# Altium schematic symbol library Analog_Switch.SchLib: 165 symbols (part 2 of 2)
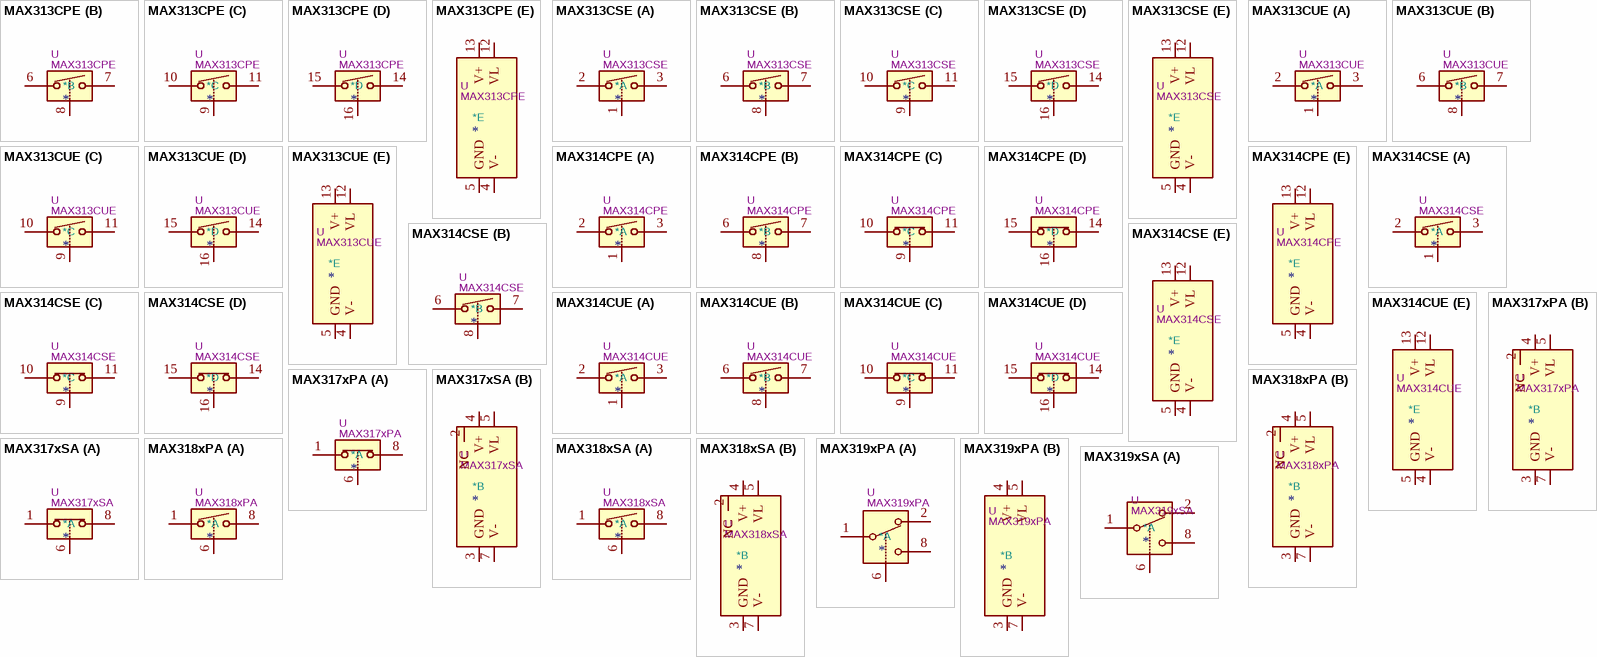
[diagram p11: symbols MAX313CPE to MAX319xSA]

## MAX313CSE
designator *  value MAX313CSE  Reference: U
Quad SPST CMOS Analog Switches, normally OFF, 6.5Ohm Ron, SOIC-16; ki_fp_filters: SOIC*3.9x9.9mm*P1.27mm*; Footprint: Package_SO:SOIC-16_3.9x9.9mm_P1.27mm; Datasheet: https://datasheets.maximintegrated.com/en/ds/MAX312-MAX314.pdf; Description_: Quad SPST CMOS Analog Switches, normally OFF, 6.5Ohm Ron, SOIC-16; ki_keywords: CMOS Analog Switch
part A pins: 1, 2, 3
part B pins: 6, 7, 8
part C pins: 9, 10, 11
part D pins: 14, 15, 16
part E pins: 4 V-, 5 GND, 12 VL, 13 V+

## MAX313CUE
designator *  value MAX313CUE  Reference: U
Quad SPST CMOS Analog Switches, normally OFF, 6.5Ohm Ron, TSSOP-16; ki_fp_filters: TSSOP*4.4x5mm*P0.65mm*; Footprint: Package_SO:TSSOP-16_4.4x5mm_P0.65mm; Datasheet: https://datasheets.maximintegrated.com/en/ds/MAX312-MAX314.pdf; Description_: Quad SPST CMOS Analog Switches, normally OFF, 6.5Ohm Ron, TSSOP-16; ki_keywords: CMOS Analog Switch
part A pins: 1, 2, 3
part B pins: 6, 7, 8
part C pins: 9, 10, 11
part D pins: 14, 15, 16
part E pins: 4 V-, 5 GND, 12 VL, 13 V+

## MAX314CPE
designator *  value MAX314CPE  Reference: U
Quad SPST CMOS Analog Switches, normally 2xON + 2xOFF, 6.5Ohm Ron, DIP-16; ki_fp_filters: DIP*W7.62mm*; Footprint: Package_DIP:DIP-16_W7.62mm; Datasheet: https://datasheets.maximintegrated.com/en/ds/MAX312-MAX314.pdf; Description_: Quad SPST CMOS Analog Switches, normally 2xON + 2xOFF, 6.5Ohm Ron, DIP-16; ki_keywords: CMOS Analog Switch
part A pins: 1, 2, 3
part B pins: 6, 7, 8
part C pins: 9, 10, 11
part D pins: 14, 15, 16
part E pins: 4 V-, 5 GND, 12 VL, 13 V+

## MAX314CSE
designator *  value MAX314CSE  Reference: U
Quad SPST CMOS Analog Switches, normally 2xON + 2xOFF, 6.5Ohm Ron, SOIC-16; ki_fp_filters: SOIC*3.9x9.9mm*P1.27mm*; Footprint: Package_SO:SOIC-16_3.9x9.9mm_P1.27mm; Datasheet: https://datasheets.maximintegrated.com/en/ds/MAX312-MAX314.pdf; Description_: Quad SPST CMOS Analog Switches, normally 2xON + 2xOFF, 6.5Ohm Ron, SOIC-16; ki_keywords: CMOS Analog Switch
part A pins: 1, 2, 3
part B pins: 6, 7, 8
part C pins: 9, 10, 11
part D pins: 14, 15, 16
part E pins: 4 V-, 5 GND, 12 VL, 13 V+

## MAX314CUE
designator *  value MAX314CUE  Reference: U
Quad SPST CMOS Analog Switches, normally 2xON + 2xOFF, 6.5Ohm Ron, TSSOP-16; ki_fp_filters: TSSOP*4.4x5mm*P0.65mm*; Footprint: Package_SO:TSSOP-16_4.4x5mm_P0.65mm; Datasheet: https://datasheets.maximintegrated.com/en/ds/MAX312-MAX314.pdf; Description_: Quad SPST CMOS Analog Switches, normally 2xON + 2xOFF, 6.5Ohm Ron, TSSOP-16; ki_keywords: CMOS Analog Switch
part A pins: 1, 2, 3
part B pins: 6, 7, 8
part C pins: 9, 10, 11
part D pins: 14, 15, 16
part E pins: 4 V-, 5 GND, 12 VL, 13 V+

## MAX317xPA
designator *  value MAX317xPA  Reference: U
Single SPST Monolithic CMOS Analog Switch, normally ON, 20Ohm Ron, DIP-8; ki_fp_filters: DIP*W7.62mm*; Footprint: Package_DIP:DIP-8_W7.62mm; Datasheet: https://datasheets.maximintegrated.com/en/ds/MAX317-MAX319.pdf; Description_: Single SPST Monolithic CMOS Analog Switch, normally ON, 20Ohm Ron, DIP-8; ki_keywords: CMOS Analog Switch
part A pins: 1, 6, 8
part B pins: 2 NC, 3 GND, 4 V+, 5 VL, 7 V-

## MAX317xSA
designator *  value MAX317xSA  Reference: U
Single SPST Monolithic CMOS Analog Switch, normally ON, 20Ohm Ron, SOIC-8; ki_fp_filters: SOIC*3.9x4.9mm*P1.27mm*; Footprint: Package_SO:SOIC-8_3.9x4.9mm_P1.27mm; Datasheet: https://datasheets.maximintegrated.com/en/ds/MAX317-MAX319.pdf; Description_: Single SPST Monolithic CMOS Analog Switch, normally ON, 20Ohm Ron, SOIC-8; ki_keywords: CMOS Analog Switch
part A pins: 1, 6, 8
part B pins: 2 NC, 3 GND, 4 V+, 5 VL, 7 V-

## MAX318xPA
designator *  value MAX318xPA  Reference: U
Single SPST Monolithic CMOS Analog Switch, normally OFF, 20Ohm Ron, DIP-8; ki_fp_filters: DIP*W7.62mm*; Footprint: Package_DIP:DIP-8_W7.62mm; Datasheet: https://datasheets.maximintegrated.com/en/ds/MAX317-MAX319.pdf; Description_: Single SPST Monolithic CMOS Analog Switch, normally OFF, 20Ohm Ron, DIP-8; ki_keywords: CMOS Analog Switch
part A pins: 1, 6, 8
part B pins: 2 NC, 3 GND, 4 V+, 5 VL, 7 V-

## MAX318xSA
designator *  value MAX318xSA  Reference: U
Single SPST Monolithic CMOS Analog Switch, normally OFF, 20Ohm Ron, SOIC-8; ki_fp_filters: SOIC*3.9x4.9mm*P1.27mm*; Footprint: Package_SO:SOIC-8_3.9x4.9mm_P1.27mm; Datasheet: https://datasheets.maximintegrated.com/en/ds/MAX317-MAX319.pdf; Description_: Single SPST Monolithic CMOS Analog Switch, normally OFF, 20Ohm Ron, SOIC-8; ki_keywords: CMOS Analog Switch
part A pins: 1, 6, 8
part B pins: 2 NC, 3 GND, 4 V+, 5 VL, 7 V-

## MAX319xPA
designator *  value MAX319xPA  Reference: U
Single SPDT Monolithic CMOS Analog Switch, 20Ohm Ron, DIP-8; ki_fp_filters: DIP*W7.62mm*; Footprint: Package_DIP:DIP-8_W7.62mm; Datasheet: https://datasheets.maximintegrated.com/en/ds/MAX317-MAX319.pdf; Description_: Single SPDT Monolithic CMOS Analog Switch, 20Ohm Ron, DIP-8; ki_keywords: CMOS Analog Switch
part A pins: 1, 2, 6, 8
part B pins: 3 GND, 4 V+, 5 VL, 7 V-

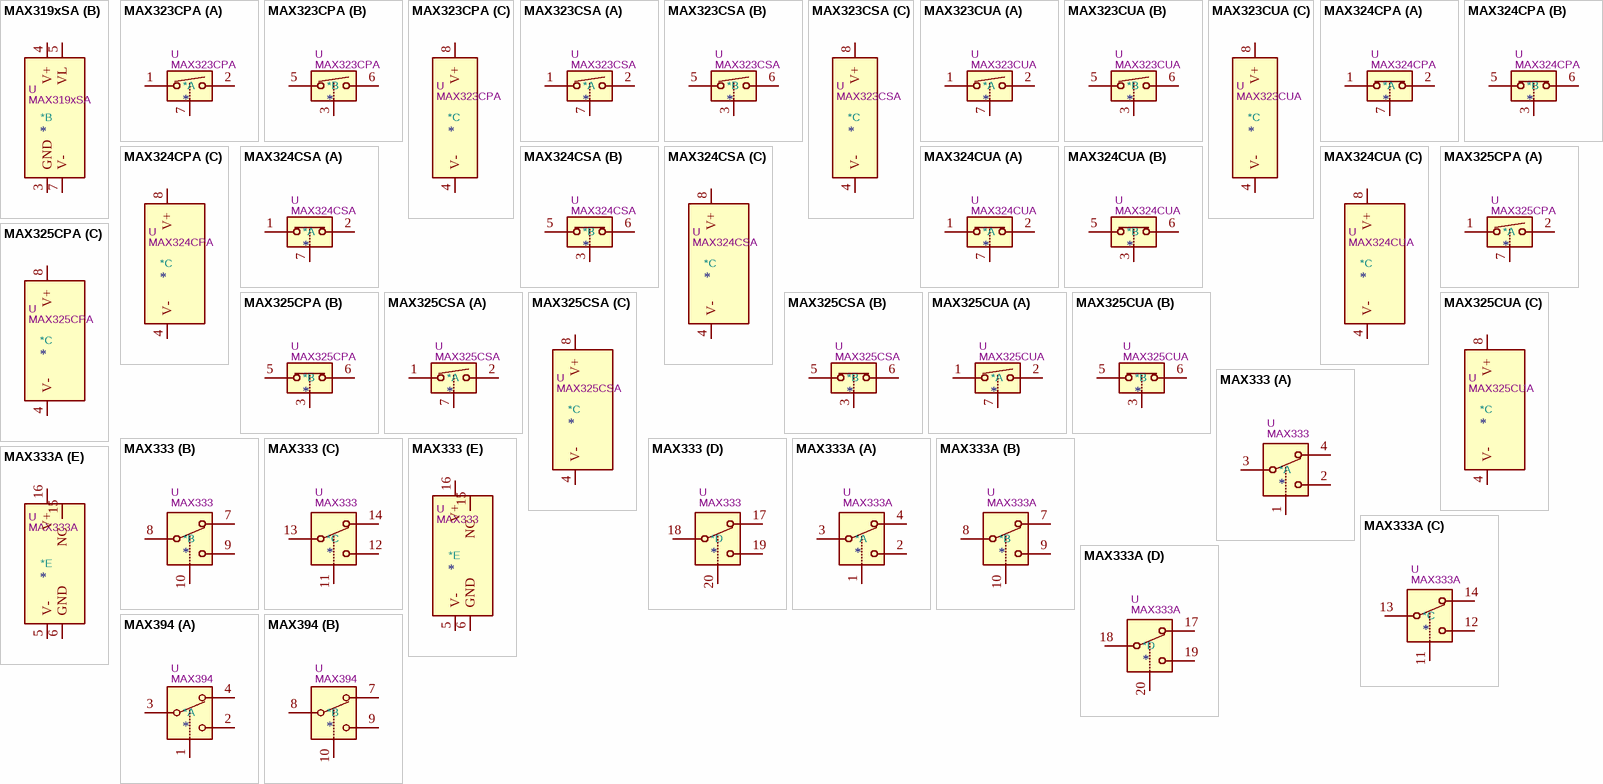
[diagram p7: symbols MAX319xSA to MAX394]

## MAX319xSA
designator *  value MAX319xSA  Reference: U
Single SPDT Monolithic CMOS Analog Switch, 20Ohm Ron, SOIC-8; ki_fp_filters: SOIC*3.9x4.9mm*P1.27mm*; Footprint: Package_SO:SOIC-8_3.9x4.9mm_P1.27mm; Datasheet: https://datasheets.maximintegrated.com/en/ds/MAX317-MAX319.pdf; Description_: Single SPDT Monolithic CMOS Analog Switch, 20Ohm Ron, SOIC-8; ki_keywords: CMOS Analog Switch
part A pins: 1, 2, 6, 8
part B pins: 3 GND, 4 V+, 5 VL, 7 V-

## MAX323CPA
designator *  value MAX323CPA  Reference: U
Dual SPST CMOS Analog Switches, normally OFF, 60Ohm Ron, DIP-8; ki_fp_filters: DIP*W7.62mm*; Footprint: Package_DIP:DIP-8_W7.62mm; Datasheet: https://datasheets.maximintegrated.com/en/ds/MAX323-MAX325.pdf; Description_: Dual SPST CMOS Analog Switches, normally OFF, 60Ohm Ron, DIP-8; ki_keywords: CMOS Analog Switch
part A pins: 1, 2, 7
part B pins: 3, 5, 6
part C pins: 4 V-, 8 V+

## MAX323CSA
designator *  value MAX323CSA  Reference: U
Dual SPST CMOS Analog Switches, normally OFF, 60Ohm Ron, SOIC-8; ki_fp_filters: SOIC*3.9x4.9mm*P1.27mm*; Footprint: Package_SO:SOIC-8_3.9x4.9mm_P1.27mm; Datasheet: https://datasheets.maximintegrated.com/en/ds/MAX323-MAX325.pdf; Description_: Dual SPST CMOS Analog Switches, normally OFF, 60Ohm Ron, SOIC-8; ki_keywords: CMOS Analog Switch
part A pins: 1, 2, 7
part B pins: 3, 5, 6
part C pins: 4 V-, 8 V+

## MAX323CUA
designator *  value MAX323CUA  Reference: U
Dual SPST CMOS Analog Switches, normally OFF, 60Ohm Ron, MSOP-8; ki_fp_filters: MSOP*3x3mm*P0.65mm*; Footprint: Package_SO:MSOP-8_3x3mm_P0.65mm; Datasheet: https://datasheets.maximintegrated.com/en/ds/MAX323-MAX325.pdf; Description_: Dual SPST CMOS Analog Switches, normally OFF, 60Ohm Ron, MSOP-8; ki_keywords: CMOS Analog Switch
part A pins: 1, 2, 7
part B pins: 3, 5, 6
part C pins: 4 V-, 8 V+

## MAX324CPA
designator *  value MAX324CPA  Reference: U
Dual SPST CMOS Analog Switches, normally ON, 60Ohm Ron, DIP-8; ki_fp_filters: DIP*W7.62mm*; Footprint: Package_DIP:DIP-8_W7.62mm; Datasheet: https://datasheets.maximintegrated.com/en/ds/MAX323-MAX325.pdf; Description_: Dual SPST CMOS Analog Switches, normally ON, 60Ohm Ron, DIP-8; ki_keywords: CMOS Analog Switch
part A pins: 1, 2, 7
part B pins: 3, 5, 6
part C pins: 4 V-, 8 V+

## MAX324CSA
designator *  value MAX324CSA  Reference: U
Dual SPST CMOS Analog Switches, normally ON, 60Ohm Ron, SOIC-8; ki_fp_filters: SOIC*3.9x4.9mm*P1.27mm*; Footprint: Package_SO:SOIC-8_3.9x4.9mm_P1.27mm; Datasheet: https://datasheets.maximintegrated.com/en/ds/MAX323-MAX325.pdf; Description_: Dual SPST CMOS Analog Switches, normally ON, 60Ohm Ron, SOIC-8; ki_keywords: CMOS Analog Switch
part A pins: 1, 2, 7
part B pins: 3, 5, 6
part C pins: 4 V-, 8 V+

## MAX324CUA
designator *  value MAX324CUA  Reference: U
Dual SPST CMOS Analog Switches, normally ON, 60Ohm Ron, MSOP-8; ki_fp_filters: MSOP*3x3mm*P0.65mm*; Footprint: Package_SO:MSOP-8_3x3mm_P0.65mm; Datasheet: https://datasheets.maximintegrated.com/en/ds/MAX323-MAX325.pdf; Description_: Dual SPST CMOS Analog Switches, normally ON, 60Ohm Ron, MSOP-8; ki_keywords: CMOS Analog Switch
part A pins: 1, 2, 7
part B pins: 3, 5, 6
part C pins: 4 V-, 8 V+

## MAX325CPA
designator *  value MAX325CPA  Reference: U
Dual SPST CMOS Analog Switches, normally 1xOFF and 1xON, 60Ohm Ron, DIP-8; ki_fp_filters: DIP*W7.62mm*; Footprint: Package_DIP:DIP-8_W7.62mm; Datasheet: https://datasheets.maximintegrated.com/en/ds/MAX323-MAX325.pdf; Description_: Dual SPST CMOS Analog Switches, normally 1xOFF and 1xON, 60Ohm Ron, DIP-8; ki_keywords: CMOS Analog Switch
part A pins: 1, 2, 7
part B pins: 3, 5, 6
part C pins: 4 V-, 8 V+

## MAX325CSA
designator *  value MAX325CSA  Reference: U
Dual SPST CMOS Analog Switches, normally 1xOFF and 1xON, 60Ohm Ron, SOIC-8; ki_fp_filters: SOIC*3.9x4.9mm*P1.27mm*; Footprint: Package_SO:SOIC-8_3.9x4.9mm_P1.27mm; Datasheet: https://datasheets.maximintegrated.com/en/ds/MAX323-MAX325.pdf; Description_: Dual SPST CMOS Analog Switches, normally 1xOFF and 1xON, 60Ohm Ron, SOIC-8; ki_keywords: CMOS Analog Switch
part A pins: 1, 2, 7
part B pins: 3, 5, 6
part C pins: 4 V-, 8 V+

## MAX325CUA
designator *  value MAX325CUA  Reference: U
Dual SPST CMOS Analog Switches, normally 1xOFF and 1xON, 60Ohm Ron, MSOP-8; ki_fp_filters: MSOP*3x3mm*P0.65mm*; Footprint: Package_SO:MSOP-8_3x3mm_P0.65mm; Datasheet: https://datasheets.maximintegrated.com/en/ds/MAX323-MAX325.pdf; Description_: Dual SPST CMOS Analog Switches, normally 1xOFF and 1xON, 60Ohm Ron, MSOP-8; ki_keywords: CMOS Analog Switch
part A pins: 1, 2, 7
part B pins: 3, 5, 6
part C pins: 4 V-, 8 V+

## MAX333
designator *  value MAX333  Reference: U
Quad SPDT CMOS Analog Switch, DIP-20/SOIC-20/SSOP-20; ki_fp_filters: SSOP*5.3x7.2mm*P0.65mm* SOIC*7.5x10.3mm*P1.27mm* DIP*W7.62mm*; Datasheet: https://datasheets.maximintegrated.com/en/ds/MAX333.pdf; Description_: Quad SPDT CMOS Analog Switch, DIP-20/SOIC-20/SSOP-20; ki_keywords: CMOS Analog Switch
part A pins: 1, 2, 3, 4
part B pins: 7, 8, 9, 10
part C pins: 11, 12, 13, 14
part D pins: 17, 18, 19, 20
part E pins: 5 V-, 6 GND, 15 NC, 16 V+

## MAX333A
designator *  value MAX333A  Reference: U
Quad SPDT CMOS Analog Switch, 17Ohm Ron, DIP-20/SOIC-20/SSOP-20/TSSOP-20; ki_fp_filters: TSSOP*4.4x6.5mm*P0.65mm* SSOP*5.3x7.2mm*P0.65mm* SOIC*7.5x10.3mm*P1.27mm* DIP*W7.62mm* SOIC*7.5x12.8mm*P1.27mm*; Datasheet: https://datasheets.maximintegrated.com/en/ds/MAX333A.pdf; Description_: Quad SPDT CMOS Analog Switch, 17Ohm Ron, DIP-20/SOIC-20/SSOP-20/TSSOP-20; ki_keywords: CMOS Analog Switch
part A pins: 1, 2, 3, 4
part B pins: 7, 8, 9, 10
part C pins: 11, 12, 13, 14
part D pins: 17, 18, 19, 20
part E pins: 5 V-, 6 GND, 15 NC, 16 V+

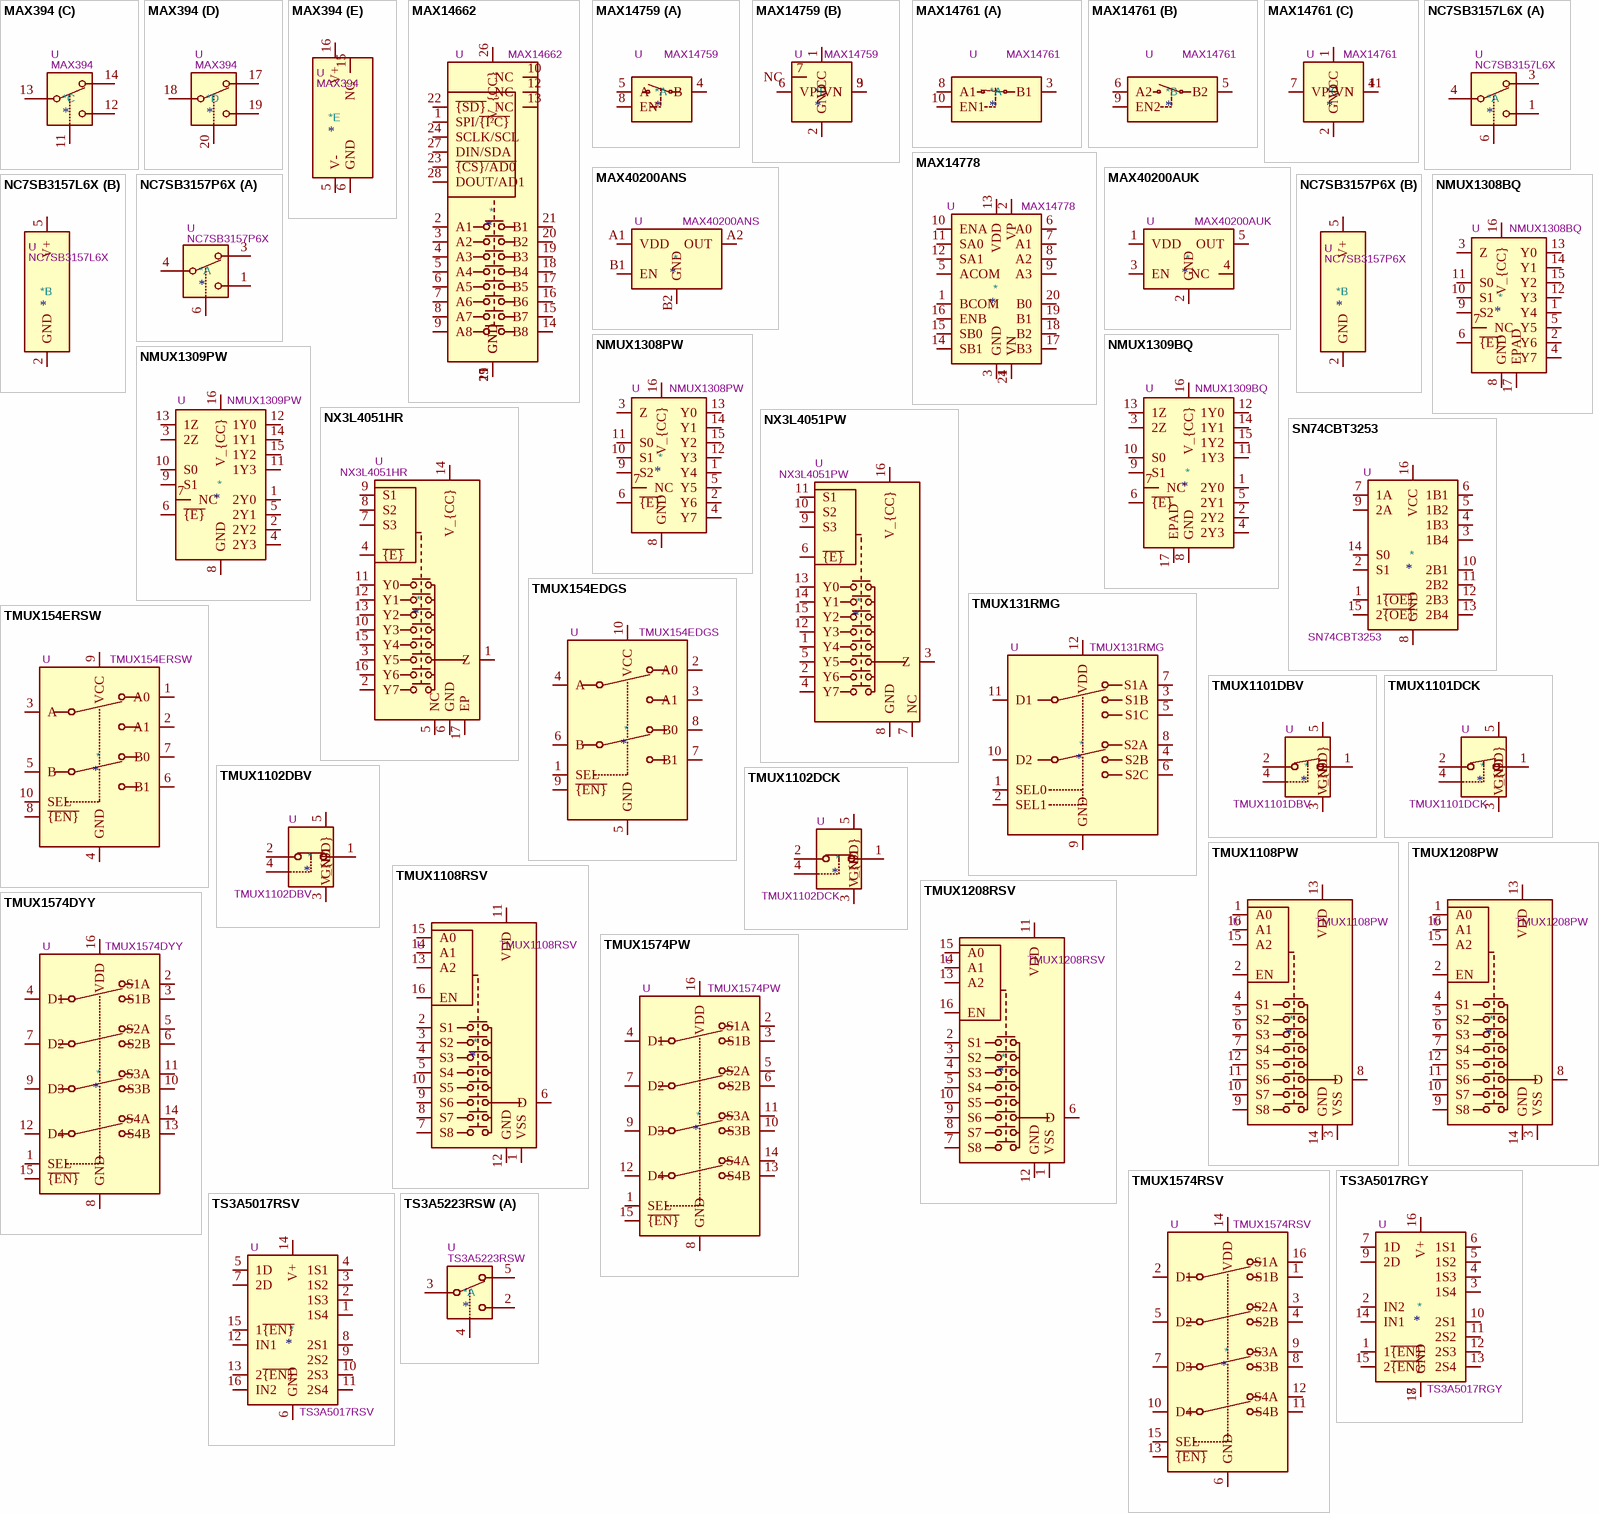
[diagram p8: symbols MAX394 to TS3A5223RSW]

## MAX394
designator *  value MAX394  Reference: U
Quad SPDT CMOS Analog Switch, 35Ohm Ron, DIP-20/SOIC-20/SSOP-20/TSSOP-20; ki_fp_filters: TSSOP*4.4x6.5mm*P0.65mm* SSOP*5.3x7.2mm*P0.65mm* SOIC*7.5x10.3mm*P1.27mm* DIP*W7.62mm* SOIC*7.5x12.8mm*P1.27mm*; Datasheet: https://datasheets.maximintegrated.com/en/ds/MAX394.pdf; Description_: Quad SPDT CMOS Analog Switch, 35Ohm Ron, DIP-20/SOIC-20/SSOP-20/TSSOP-20; ki_keywords: CMOS Analog Switch
part A pins: 1, 2, 3, 4
part B pins: 7, 8, 9, 10
part C pins: 11, 12, 13, 14
part D pins: 17, 18, 19, 20
part E pins: 5 V-, 6 GND, 15 NC, 16 V+

## MAX14662
designator *  value MAX14662  Reference: U
Analog Switch, beyond-the-Rails 8xSPST, I²C/SPI interface, 1.6..5.5V supply, 0.425Ohm Ron, WQFN-28; ki_keywords: octal SPST i2c spi; ki_fp_filters: *QFN*4x4mm*P0.4mm*EP2.7x2.7*; Footprint: Package_DFN_QFN:WQFN-28-1EP_4x4mm_P0.4mm_EP2.7x2.7mm; Datasheet: https://www.analog.com/media/en/technical-documentation/data-sheets/MAX14662.pdf; Description_: Analog Switch, beyond-the-Rails 8xSPST, I²C/SPI interface, 1.6..5.5V supply, 0.425Ohm Ron, WQFN-28
pins: 1 SPI/~{{I²C}}, 2 A1, 3 A2, 4 A3, 5 A4, 6 A5, 7 A6, 8 A7, 9 A8, 10 NC, 11 GND, 12 NC, 13 NC, 14 B8, 15 B7, 16 B6, 17 B5, 18 B4, 19 B3, 20 B2, 21 B1, 22 ~{{SD}}, 23 ~{{CS}/AD0}, 24 SCLK/SCL, 25 GND, 26 V_{CC}, 27 DIN/SDA, 28 DOUT/AD1, 29 GND

## MAX14759
designator *  value MAX14759  Reference: U
Above- and Below-the-Rails Low On-Resistance Analog Switches, max 2 Ohms On-Resistance, TDFN-8; ki_keywords: analog switch low resistance above below rails; ki_fp_filters: DFN*3x3mm*P0.65mm*; Footprint: Package_DFN_QFN:DFN-8-1EP_3x3mm_P0.65mm_EP1.55x2.4mm; Datasheet: https://datasheets.maximintegrated.com/en/ds/MAX14759-MAX14763.pdf; Description_: Above- and Below-the-Rails Low On-Resistance Analog Switches, max 2 Ohms On-Resistance, TDFN-8
part A pins: 4 B, 5 A, 8 EN
part B pins: 1 VCC, 2 GND, 3 VN, 6 VP, 7 NC, 9 VN

## MAX14761
designator *  value MAX14761  Reference: U
Above- and Below-the-Rails Low On-Resistance Analog Switches, max 2 Ohm On resistor, TDFN-10; ki_keywords: analog switch low resistance above below rails; ki_fp_filters: DFN*3x3mm*P0.5mm*; Footprint: Package_DFN_QFN:DFN-10-1EP_3x3mm_P0.5mm_EP1.55x2.48mm; Datasheet: https://datasheets.maximintegrated.com/en/ds/MAX14759-MAX14763.pdf; Description_: Above- and Below-the-Rails Low On-Resistance Analog Switches, max 2 Ohm On resistor, TDFN-10
part A pins: 3 B1, 8 A1, 10 EN1
part B pins: 5 B2, 6 A2, 9 EN2
part C pins: 1 VCC, 2 GND, 4 VN, 7 VP, 11 VN

## MAX14778
designator *  value MAX14778  Reference: U
Dual ±25V Above- and Below-the-Rails 4:1 Analog Multiplexer, TQFN-20; ki_keywords: Analog Differential Multiplexer; ki_fp_filters: TQFN*1EP*5x5mm*P0.65mm*; Footprint: Package_DFN_QFN:TQFN-20-1EP_5x5mm_P0.65mm_EP3.1x3.1mm; Datasheet: https://datasheets.maximintegrated.com/en/ds/MAX14778.pdf; Description_: Dual ±25V Above- and Below-the-Rails 4:1 Analog Multiplexer, TQFN-20
pins: 1 BCOM, 2 VP, 3 GND, 4 VN, 5 ACOM, 6 A0, 7 A1, 8 A2, 9 A3, 10 ENA, 11 SA0, 12 SA1, 13 VDD, 14 SB1, 15 SB0, 16 ENB, 17 B3, 18 B2, 19 B1, 20 B0, 21 VN

## MAX40200ANS
designator *  value MAX40200ANS  Reference: U
Ideal Diode, Ultra-Low Voltage Drop, 1.5-5.5V, 1A, WLP-4; ki_keywords: current switch; ki_fp_filters: WLP*0.728x0.728mm*Layout2x2*P0.35mm*; Footprint: Package_BGA:WLP-4_0.728x0.728mm_Layout2x2_P0.35mm; Datasheet: https://datasheets.maximintegrated.com/en/ds/MAX40200.pdf; Description_: Ideal Diode, Ultra-Low Voltage Drop, 1.5-5.5V, 1A, WLP-4
pins: A1 VDD, A2 OUT, B1 EN, B2 GND

## MAX40200AUK
designator *  value MAX40200AUK  Reference: U
Ideal Diode, Ultra-Low Voltage Drop, 1.5-5.5V, 1A, SOT-23-5; ki_keywords: current switch; ki_fp_filters: SOT?23*; Footprint: Package_TO_SOT_SMD:SOT-23-5; Datasheet: https://datasheets.maximintegrated.com/en/ds/MAX40200.pdf; Description_: Ideal Diode, Ultra-Low Voltage Drop, 1.5-5.5V, 1A, SOT-23-5
pins: 1 VDD, 2 GND, 3 EN, 4 NC, 5 OUT

## NC7SB3157L6X
designator *  value NC7SB3157L6X  Reference: U
Single SPDT Low-Voltage Analog Switch or 2:1 Multiplexer/De-Multiplexer Bus Switch, 10Ohm Ron, MicroPak-6; ki_keywords: CMOS Analog Switch; ki_fp_filters: Fairchild*MicroPak*1.0x1.45mm*P0.5mm*; Footprint: Package_SON:Fairchild_MicroPak-6_1.0x1.45mm_P0.5mm; Datasheet: https://www.onsemi.com/pub/Collateral/NC7SB3157-D.PDF; Description_: Single SPDT Low-Voltage Analog Switch or 2:1 Multiplexer/De-Multiplexer Bus Switch, 10Ohm Ron, MicroPak-6
part A pins: 1, 3, 4, 6
part B pins: 2 GND, 5 V+

## NC7SB3157P6X
designator *  value NC7SB3157P6X  Reference: U
Single SPDT Low-Voltage Analog Switch or 2:1 Multiplexer/De-Multiplexer Bus Switch, 10Ohm Ron, SC-70-6; ki_keywords: CMOS Analog Switch; ki_fp_filters: *SC?70*; Footprint: Package_TO_SOT_SMD:SOT-363_SC-70-6; Datasheet: https://www.onsemi.com/pub/Collateral/NC7SB3157-D.PDF; Description_: Single SPDT Low-Voltage Analog Switch or 2:1 Multiplexer/De-Multiplexer Bus Switch, 10Ohm Ron, SC-70-6
part A pins: 1, 3, 4, 6
part B pins: 2 GND, 5 V+

## NMUX1308BQ
designator *  value NMUX1308BQ  Reference: U
8-channel analog switch multiplexer and demultiplexer with injection-current control, 1.5..5.5V supply voltage, DHVQFN-16; ki_keywords: mux demux CMOS 4851 4051 NMUX1308BQ-Q100; ki_fp_filters: DHVQFN*2.5x3.5mm*P0.5mm*EP1*x2*; Footprint: Package_DFN_QFN:DHVQFN-16-1EP_2.5x3.5mm_P0.5mm_EP1x2mm; Datasheet: https://assets.nexperia.com/documents/data-sheet/NMUX1308.pdf; Description_: 8-channel analog switch multiplexer and demultiplexer with injection-current control, 1.5..5.5V supply voltage, DHVQFN-16
pins: 1 Y4, 2 Y6, 3 Z, 4 Y7, 5 Y5, 6 ~{{E}}, 7 NC, 8 GND, 9 S2, 10 S1, 11 S0, 12 Y3, 13 Y0, 14 Y1, 15 Y2, 16 V_{CC}, 17 EPAD

## NMUX1308PW
designator *  value NMUX1308PW  Reference: U
8-channel analog switch multiplexer and demultiplexer with injection-current control, 1.5..5.5V supply voltage, TSSOP-16; ki_keywords: mux demux CMOS 4851 4051 NMUX1308PW-Q100; ki_fp_filters: TSSOP*4.4x5mm*P0.65mm*; Footprint: Package_SO:TSSOP-16_4.4x5mm_P0.65mm; Datasheet: https://assets.nexperia.com/documents/data-sheet/NMUX1308.pdf; Description_: 8-channel analog switch multiplexer and demultiplexer with injection-current control, 1.5..5.5V supply voltage, TSSOP-16
pins: 1 Y4, 2 Y6, 3 Z, 4 Y7, 5 Y5, 6 ~{{E}}, 7 NC, 8 GND, 9 S2, 10 S1, 11 S0, 12 Y3, 13 Y0, 14 Y1, 15 Y2, 16 V_{CC}

## NMUX1309BQ
designator *  value NMUX1309BQ  Reference: U
Dual 4-channel analog switch multiplexer and demultiplexer with injection-current control, 1.5..5.5V supply voltage, DHVQFN-16; ki_keywords: mux demux CMOS 4852 4052 NMUX1309BQ-Q100; ki_fp_filters: DHVQFN*2.5x3.5mm*P0.5mm*EP1*x2*; Footprint: Package_DFN_QFN:DHVQFN-16-1EP_2.5x3.5mm_P0.5mm_EP1x2mm; Datasheet: https://assets.nexperia.com/documents/data-sheet/NMUX1309.pdf; Description_: Dual 4-channel analog switch multiplexer and demultiplexer with injection-current control, 1.5..5.5V supply voltage, DHVQFN-16
pins: 1 2Y0, 2 2Y2, 3 2Z, 4 2Y3, 5 2Y1, 6 ~{{E}}, 7 NC, 8 GND, 9 S1, 10 S0, 11 1Y3, 12 1Y0, 13 1Z, 14 1Y1, 15 1Y2, 16 V_{CC}, 17 EPAD

## NMUX1309PW
designator *  value NMUX1309PW  Reference: U
Dual 4-channel analog switch multiplexer and demultiplexer with injection-current control, 1.5..5.5V supply voltage, TSSOP-16; ki_keywords: mux demux CMOS 4852 4052 NMUX1309PW-Q100; ki_fp_filters: TSSOP*4.4x5mm*P0.65mm*; Footprint: Package_SO:TSSOP-16_4.4x5mm_P0.65mm; Datasheet: https://assets.nexperia.com/documents/data-sheet/NMUX1309.pdf; Description_: Dual 4-channel analog switch multiplexer and demultiplexer with injection-current control, 1.5..5.5V supply voltage, TSSOP-16
pins: 1 2Y0, 2 2Y2, 3 2Z, 4 2Y3, 5 2Y1, 6 ~{{E}}, 7 NC, 8 GND, 9 S1, 10 S0, 11 1Y3, 12 1Y0, 13 1Z, 14 1Y1, 15 1Y2, 16 V_{CC}

## NX3L4051HR
designator *  value NX3L4051HR  Reference: U
Single 8-channel analog switch, break before switch, low-ohmic 0.5 Ohm, 1.4V-4.3V , HXQFN-16; ki_keywords: multiplexer SP8T; ki_fp_filters: HXQFN*16*3x3mm*P0.5mm*EP1.85x1.85mm*; Footprint: Package_DFN_QFN:HXQFN-16-1EP_3x3mm_P0.5mm_EP1.85x1.85mm; Datasheet: https://www.nxp.com/docs/en/data-sheet/NX3L4051.pdf; Description_: Single 8-channel analog switch, break before switch, low-ohmic 0.5 Ohm, 1.4V-4.3V , HXQFN-16
pins: 1 Z, 2 Y7, 3 Y5, 4 ~{{E}}, 5 NC, 6 GND, 7 S3, 8 S2, 9 S1, 10 Y3, 11 Y0, 12 Y1, 13 Y2, 14 V_{CC}, 15 Y4, 16 Y6, 17 EP

## NX3L4051PW
designator *  value NX3L4051PW  Reference: U
Single 8-channel analog switch, break before switch, low-ohmic 0.5 Ohm, 1.4V-4.3V , TSSOP-16; ki_keywords: multiplexer SP8T; ki_fp_filters: TSSOP*16*4.4x5mm*P0.65mm*; Footprint: Package_SO:TSSOP-16_4.4x5mm_P0.65mm; Datasheet: https://www.nxp.com/docs/en/data-sheet/NX3L4051.pdf; Description_: Single 8-channel analog switch, break before switch, low-ohmic 0.5 Ohm, 1.4V-4.3V , TSSOP-16
pins: 1 Y4, 2 Y6, 3 Z, 4 Y7, 5 Y5, 6 ~{{E}}, 7 NC, 8 GND, 9 S3, 10 S2, 11 S1, 12 Y3, 13 Y0, 14 Y1, 15 Y2, 16 V_{CC}

## SN74CBT3253
designator *  value SN74CBT3253  Reference: U
Dual 1 to 4 Analog Multiplexer; ki_keywords: TTL Analog Multiplexer; ki_fp_filters: SOIC*3.9x9.9mm*P1.27mm* TSSOP*4.4x5mm*P0.65mm* SSOP*5.3x6.2mm*P0.65mm*; Datasheet: http://www.ti.com/lit/gpn/sn74cbt3253; Description_: Dual 1 to 4 Analog Multiplexer
pins: 1 1~{{OE}}, 2 S1, 3 1B4, 4 1B3, 5 1B2, 6 1B1, 7 1A, 8 GND, 9 2A, 10 2B1, 11 2B2, 12 2B3, 13 2B4, 14 S0, 15 2~{{OE}}, 16 VCC

## TMUX131RMG
designator *  value TMUX131RMG  Reference: U
Low Capacitance, R_{on} 5.5Ω, 2-Channel, 3:1 Switch, 2.5-4.3V, WQFN-12; ki_keywords: 3:1 mux dual; ki_fp_filters: *RMG0012A*WQFN*1.8x1.8*; Footprint: Package_DFN_QFN:Texas_RMG0012A_WQFN-12_1.8x1.8mm_P0.4mm; Datasheet: https://www.ti.com/lit/ds/symlink/tmux131.pdf; Description_: Low Capacitance, R_{on} 5.5Ω, 2-Channel, 3:1 Switch, 2.5-4.3V, WQFN-12
pins: 1 SEL0, 2 SEL1, 3 S1B, 4 S2B, 5 S1C, 6 S2C, 7 S1A, 8 S2A, 9 GND, 10 D2, 11 D1, 12 VDD

## TMUX154EDGS
designator *  value TMUX154EDGS  Reference: U
ESD-Protected, Low Capacitance, 2-Channel, 2:1 Switch, With Powered-off Protection, VSSOP-10; ki_keywords: mux multiplexer; ki_fp_filters: VSSOP*3x3mm*P0.5mm*; Footprint: Package_SO:VSSOP-10_3x3mm_P0.5mm; Datasheet: https://www.ti.com/lit/ds/symlink/tmux154e.pdf; Description_: ESD-Protected, Low Capacitance, 2-Channel, 2:1 Switch, With Powered-off Protection, VSSOP-10
pins: 1 SEL, 2 A0, 3 A1, 4 A, 5 GND, 6 B, 7 B1, 8 B0, 9 ~{{EN}}, 10 VCC

## TMUX154ERSW
designator *  value TMUX154ERSW  Reference: U
ESD-Protected, Low Capacitance, 2-Channel, 2:1 Switch, With Powered-off Protection, UQFN-10; ki_keywords: mux multiplexer; ki_fp_filters: UQFN*1.4x1.8mm?P0.4mm*; Footprint: Package_DFN_QFN:UQFN-10_1.4x1.8mm_P0.4mm; Datasheet: https://www.ti.com/lit/ds/symlink/tmux154e.pdf; Description_: ESD-Protected, Low Capacitance, 2-Channel, 2:1 Switch, With Powered-off Protection, UQFN-10
pins: 1 A0, 2 A1, 3 A, 4 GND, 5 B, 6 B1, 7 B0, 8 ~{{EN}}, 9 VCC, 10 SEL

## TMUX1101DBV
designator *  value TMUX1101DBV  Reference: U
SPST Analog Switch, 1.08V to 5.5V Supply, 3pA Leakage Current, Normally OFF, 1.8Ohm Ron, SOT-23-5; ki_keywords: Analog Switch SPST; ki_fp_filters: *SOT?23*; Footprint: Package_TO_SOT_SMD:SOT-23-5; Datasheet: https://www.ti.com/lit/ds/symlink/tmux1101.pdf; Description_: SPST Analog Switch, 1.08V to 5.5V Supply, 3pA Leakage Current, Normally OFF, 1.8Ohm Ron, SOT-23-5
pins: 1, 2, 3 GND, 4, 5 V_{DD}

## TMUX1101DCK
designator *  value TMUX1101DCK  Reference: U
SPST Analog Switch, 1.08V to 5.5V Supply, 3pA Leakage Current, Normally OFF, 1.8Ohm Ron, SC-70; ki_keywords: Analog Switch SPST; ki_fp_filters: *SC?70*; Footprint: Package_TO_SOT_SMD:SOT-353_SC-70-5; Datasheet: https://www.ti.com/lit/ds/symlink/tmux1101.pdf; Description_: SPST Analog Switch, 1.08V to 5.5V Supply, 3pA Leakage Current, Normally OFF, 1.8Ohm Ron, SC-70
pins: 1, 2, 3 GND, 4, 5 V_{DD}

## TMUX1102DBV
designator *  value TMUX1102DBV  Reference: U
SPST Analog Switch, 1.08V to 5.5V Supply, 3pA Leakage Current, Normally ON, 1.8Ohm Ron, SOT-23-5; ki_keywords: Analog Switch SPST; ki_fp_filters: *SOT?23*; Footprint: Package_TO_SOT_SMD:SOT-23-5; Datasheet: https://www.ti.com/lit/ds/symlink/tmux1102.pdf; Description_: SPST Analog Switch, 1.08V to 5.5V Supply, 3pA Leakage Current, Normally ON, 1.8Ohm Ron, SOT-23-5
pins: 1, 2, 3 GND, 4, 5 V_{DD}

## TMUX1102DCK
designator *  value TMUX1102DCK  Reference: U
SPST Analog Switch, 1.08V to 5.5V Supply, 3pA Leakage Current, Normally ON, 1.8Ohm Ron, SC-70; ki_keywords: Analog Switch SPST; ki_fp_filters: *SC?70*; Footprint: Package_TO_SOT_SMD:SOT-353_SC-70-5; Datasheet: https://www.ti.com/lit/ds/symlink/tmux1102.pdf; Description_: SPST Analog Switch, 1.08V to 5.5V Supply, 3pA Leakage Current, Normally ON, 1.8Ohm Ron, SC-70
pins: 1, 2, 3 GND, 4, 5 V_{DD}

## TMUX1108PW
designator *  value TMUX1108PW  Reference: U
5V / ±2.5V, Low-Leakage-Current, 8:1 Precision Multiplexer, 2.5 Ohm Ron, 90Mhz, TSSOP-16; ki_keywords: analog switch selector multiplexer; ki_fp_filters: TSSOP*4.4x5mm*P0.65mm*; Footprint: Package_SO:TSSOP-16_4.4x5mm_P0.65mm; Datasheet: https://www.ti.com/lit/ds/symlink/tmux1108.pdf; Description_: 5V / ±2.5V, Low-Leakage-Current, 8:1 Precision Multiplexer, 2.5 Ohm Ron, 90Mhz, TSSOP-16
pins: 1 A0, 2 EN, 3 VSS, 4 S1, 5 S2, 6 S3, 7 S4, 8 D, 9 S8, 10 S7, 11 S6, 12 S5, 13 VDD, 14 GND, 15 A2, 16 A1

## TMUX1108RSV
designator *  value TMUX1108RSV  Reference: U
5V / ±2.5V, Low-Leakage-Current, 8:1 Precision Multiplexer, 2.5 Ohm Ron, 90Mhz, QFN-16; ki_keywords: analog switch selector multiplexer; ki_fp_filters: UQFN*1.8x2.6mm*P0.4mm*; Footprint: Package_DFN_QFN:UQFN-16_1.8x2.6mm_P0.4mm; Datasheet: https://www.ti.com/lit/ds/symlink/tmux1108.pdf; Description_: 5V / ±2.5V, Low-Leakage-Current, 8:1 Precision Multiplexer, 2.5 Ohm Ron, 90Mhz, QFN-16
pins: 1 VSS, 2 S1, 3 S2, 4 S3, 5 S4, 6 D, 7 S8, 8 S7, 9 S6, 10 S5, 11 VDD, 12 GND, 13 A2, 14 A1, 15 A0, 16 EN

## TMUX1208PW
designator *  value TMUX1208PW  Reference: U
5V, 8:1 General Purpose Analog Multiplexer, 5 Ohm Ron, 65 Mhz, TSSOP-16; ki_keywords: analog switch selector multiplexer; ki_fp_filters: TSSOP*4.4x5mm*P0.65mm*; Footprint: Package_SO:TSSOP-16_4.4x5mm_P0.65mm; Datasheet: https://www.ti.com/lit/ds/symlink/tmux1208.pdf; Description_: 5V, 8:1 General Purpose Analog Multiplexer, 5 Ohm Ron, 65 Mhz, TSSOP-16
pins: 1 A0, 2 EN, 3 VSS, 4 S1, 5 S2, 6 S3, 7 S4, 8 D, 9 S8, 10 S7, 11 S6, 12 S5, 13 VDD, 14 GND, 15 A2, 16 A1

## TMUX1208RSV
designator *  value TMUX1208RSV  Reference: U
5V, 8:1 General Purpose Analog Multiplexer, 5 Ohm Ron, 65 Mhz, QFN-16; ki_keywords: analog switch selector multiplexer; ki_fp_filters: UQFN*1.8x2.6mm*P0.4mm*; Footprint: Package_DFN_QFN:UQFN-16_1.8x2.6mm_P0.4mm; Datasheet: https://www.ti.com/lit/ds/symlink/tmux1208.pdf; Description_: 5V, 8:1 General Purpose Analog Multiplexer, 5 Ohm Ron, 65 Mhz, QFN-16
pins: 1 VSS, 2 S1, 3 S2, 4 S3, 5 S4, 6 D, 7 S8, 8 S7, 9 S6, 10 S5, 11 VDD, 12 GND, 13 A2, 14 A1, 15 A0, 16 EN

## TMUX1574DYY
designator *  value TMUX1574DYY  Reference: U
Low Capacitance, 4-Channel, 2 to 1 Switch, Powered-off Protection with 1.8V logic, TSOT-23-16; ki_keywords: 2 to 1 Switch 4-Channel; ki_fp_filters: *TSOT*23?16*; Footprint: Package_SO:Texas_DYY0016A_TSOT-23-16_2x4.2mm_P0.5mm; Datasheet: https://www.ti.com/lit/ds/symlink/tmux1574.pdf; Description_: Low Capacitance, 4-Channel, 2 to 1 Switch, Powered-off Protection with 1.8V logic, TSOT-23-16
pins: 1 SEL, 2 S1A, 3 S1B, 4 D1, 5 S2A, 6 S2B, 7 D2, 8 GND, 9 D3, 10 S3B, 11 S3A, 12 D4, 13 S4B, 14 S4A, 15 ~{{EN}}, 16 VDD

## TMUX1574PW
designator *  value TMUX1574PW  Reference: U
Low Capacitance and low resistance 2Ω, 4-Channel, 2:1 Switch, Powered-off Protection with 1.8V logic, 1.5 - 5.5V, TSSOP-16; ki_keywords: mux quad 2:1; ki_fp_filters: TSSOP*4.4x5mm*P0.65mm*; Footprint: Package_SO:TSSOP-16_4.4x5mm_P0.65mm; Datasheet: https://www.ti.com/lit/ds/symlink/tmux1574.pdf; Description_: Low Capacitance and low resistance 2Ω, 4-Channel, 2:1 Switch, Powered-off Protection with 1.8V logic, 1.5 - 5.5V, TSSOP-16
pins: 1 SEL, 2 S1A, 3 S1B, 4 D1, 5 S2A, 6 S2B, 7 D2, 8 GND, 9 D3, 10 S3B, 11 S3A, 12 D4, 13 S4B, 14 S4A, 15 ~{{EN}}, 16 VDD

## TMUX1574RSV
designator *  value TMUX1574RSV  Reference: U
Low Capacitance and low resistance 2Ω, 4-Channel, 2:1 Switch, Powered-off Protection with 1.8V logic, 1.5 - 5.5V, UQFN-16; ki_keywords: mux quad 2:1; ki_fp_filters: UQFN*1.8x2.6mm*P0.4mm*; Footprint: Package_DFN_QFN:UQFN-16_1.8x2.6mm_P0.4mm; Datasheet: https://www.ti.com/lit/ds/symlink/tmux1574.pdf; Description_: Low Capacitance and low resistance 2Ω, 4-Channel, 2:1 Switch, Powered-off Protection with 1.8V logic, 1.5 - 5.5V, UQFN-16
pins: 1 S1B, 2 D1, 3 S2A, 4 S2B, 5 D2, 6 GND, 7 D3, 8 S3B, 9 S3A, 10 D4, 11 S4B, 12 S4A, 13 ~{{EN}}, 14 VDD, 15 SEL, 16 S1A

## TS3A5017RGY
designator *  value TS3A5017RGY  Reference: U
Dual SP4T Analog Switch Mux Demux, VQFN; ki_keywords: Analog switch SP4T; ki_fp_filters: Texas*RGY*R*PVQFN*N*; Footprint: Package_DFN_QFN:Texas_RGY_R-PVQFN-N16_EP2.05x2.55mm; Datasheet: https://www.ti.com/lit/ds/symlink/ts3a5017.pdf; Description_: Dual SP4T Analog Switch Mux Demux, VQFN
pins: 1 1~{{EN}}, 2 IN2, 3 1S4, 4 1S3, 5 1S2, 6 1S1, 7 1D, 8 GND, 9 2D, 10 2S1, 11 2S2, 12 2S3, 13 2S4, 14 IN1, 15 2~{{EN}}, 16 V+, 17 GND

## TS3A5017RSV
designator *  value TS3A5017RSV  Reference: U
Dual SP4T Analog Switch Mux Demux, UQFN-16; ki_keywords: Analog switch SP4T; ki_fp_filters: UQFN*1.8x2.6mm*P0.4mm*; Footprint: Package_DFN_QFN:UQFN-16_1.8x2.6mm_P0.4mm; Datasheet: https://www.ti.com/lit/ds/symlink/ts3a5017.pdf; Description_: Dual SP4T Analog Switch Mux Demux, UQFN-16
pins: 1 1S4, 2 1S3, 3 1S2, 4 1S1, 5 1D, 6 GND, 7 2D, 8 2S1, 9 2S2, 10 2S3, 11 2S4, 12 IN1, 13 2~{{EN}}, 14 V+, 15 1~{{EN}}, 16 IN2

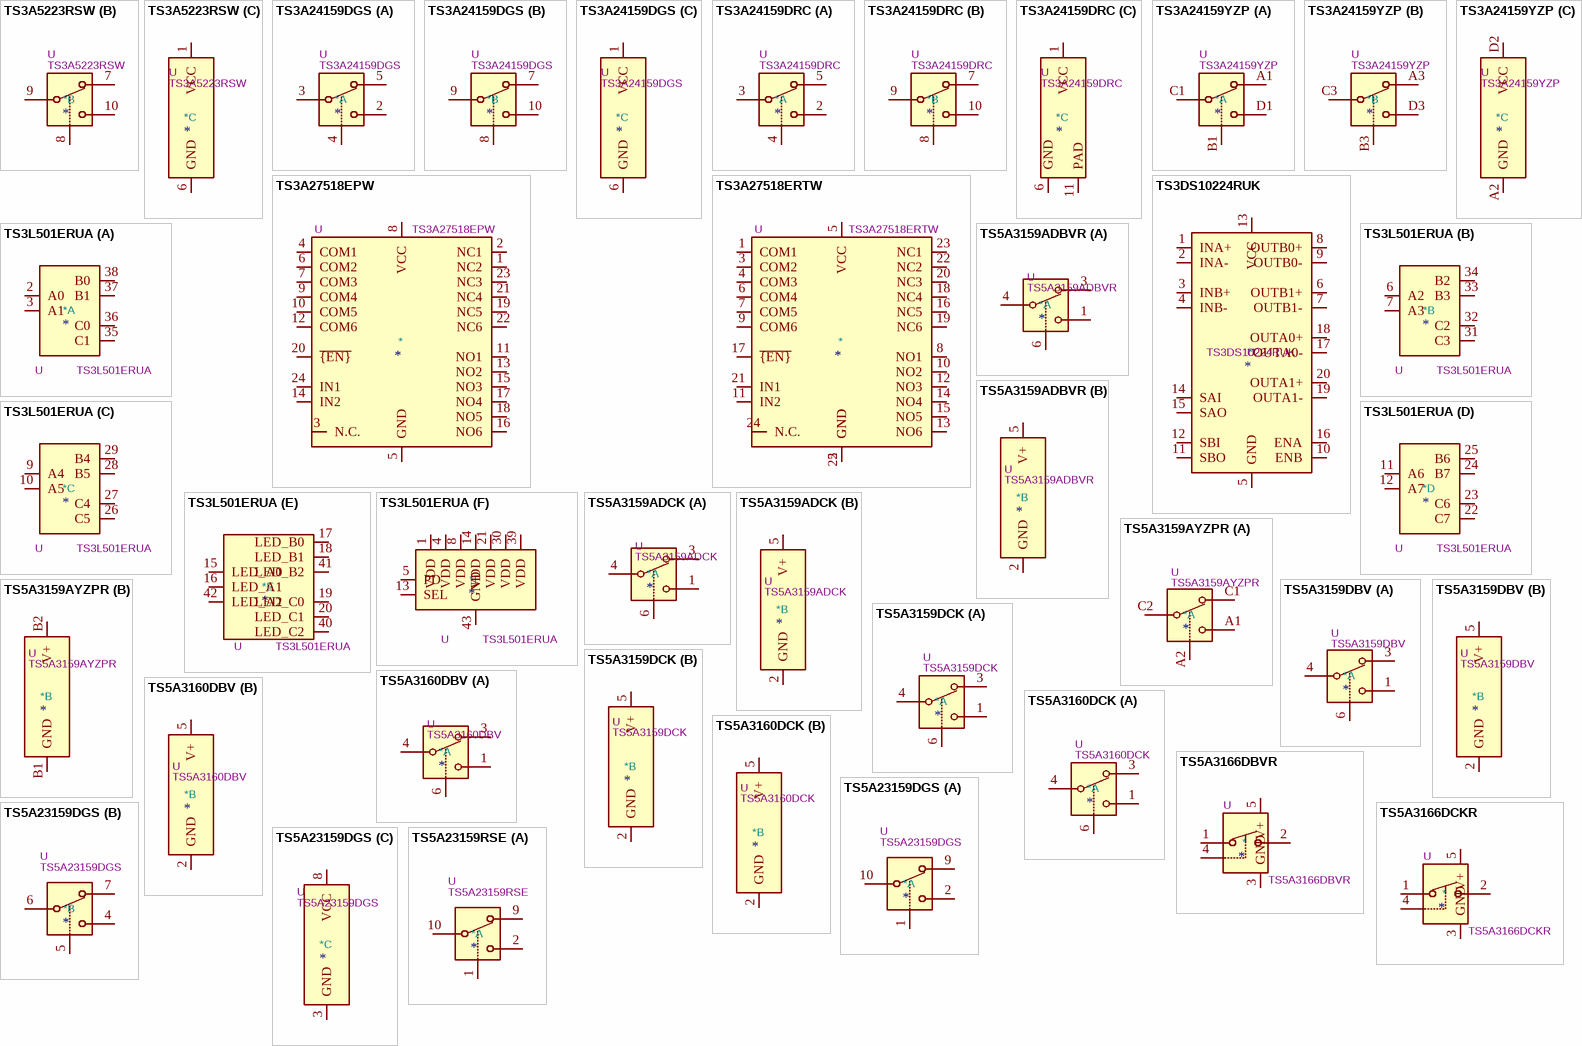
[diagram p9: symbols TS3A5223RSW to TS5A23159RSE]

## TS3A5223RSW
designator *  value TS3A5223RSW  Reference: U
Dual SPDT 0.45..0.85mΩ Bidirectional Analog switch, 1.65..3.6V supply, UQFN-10; ki_keywords: MUX DEMUX Texas; ki_fp_filters: *UQFN*1.4*1.8*P0.4mm*; Footprint: Package_DFN_QFN:Texas_RSW0010A_UQFN-10_1.4x1.8mm_P0.4mm; Datasheet: https://www.ti.com/lit/ds/symlink/ts3a5223.pdf; Description_: Dual SPDT 0.45..0.85mΩ Bidirectional Analog switch, 1.65..3.6V supply, UQFN-10
part A pins: 2, 3, 4, 5
part B pins: 7, 8, 9, 10
part C pins: 1 VCC, 6 GND

## TS3A24159DGS
designator *  value TS3A24159DGS  Reference: U
Dual SPDT 0.3Ω Bidirectional Analog Switch, TSSOP-10; ki_keywords: switch analog SPDT; ki_fp_filters: *SSOP*3x3mm*P0.5mm*; Footprint: Package_SO:TSSOP-10_3x3mm_P0.5mm; Datasheet: http://www.ti.com/lit/ds/symlink/ts3a24159.pdf; Description_: Dual SPDT 0.3Ω Bidirectional Analog Switch, TSSOP-10
part A pins: 2, 3, 4, 5
part B pins: 7, 8, 9, 10
part C pins: 1 VCC, 6 GND

## TS3A24159DRC
designator *  value TS3A24159DRC  Reference: U
Dual SPDT 0.3Ω Bidirectional Analog Switch, VSON-10; ki_keywords: switch analog SPDT; ki_fp_filters: Texas*S?PVSON?N10*; Footprint: Package_SON:Texas_S-PVSON-N10; Datasheet: http://www.ti.com/lit/ds/symlink/ts3a24159.pdf; Description_: Dual SPDT 0.3Ω Bidirectional Analog Switch, VSON-10
part A pins: 2, 3, 4, 5
part B pins: 7, 8, 9, 10
part C pins: 1 VCC, 6 GND, 11 PAD

## TS3A24159YZP
designator *  value TS3A24159YZP  Reference: U
Dual SPDT 0.3Ω Bidirectional Analog Switch, DSBGA-10; ki_keywords: switch analog SPDT; ki_fp_filters: Texas*DSBGA*1.36x1.86mm*Layout3x4*P0.5mm*; Footprint: Package_BGA:Texas_DSBGA-10_1.36x1.86mm_Layout3x4_P0.5mm; Datasheet: http://www.ti.com/lit/ds/symlink/ts3a24159.pdf; Description_: Dual SPDT 0.3Ω Bidirectional Analog Switch, DSBGA-10
part A pins: A1, B1, C1, D1
part B pins: A3, B3, C3, D3
part C pins: A2 GND, D2 VCC

## TS3A27518EPW
designator *  value TS3A27518EPW  Reference: U
6-channel analog mux, TSSOP-24; ki_keywords: SPI qSPI multiplexer demux; ki_fp_filters: TSSOP*4.4x7.8mm*P0.65mm*; Footprint: Package_SO:TSSOP-24_4.4x7.8mm_P0.65mm; Datasheet: http://www.ti.com/lit/ds/symlink/ts3a27518e.pdf; Description_: 6-channel analog mux, TSSOP-24
pins: 1 NC2, 2 NC1, 3 N.C., 4 COM1, 5 GND, 6 COM2, 7 COM3, 8 VCC, 9 COM4, 10 COM5, 11 NO1, 12 COM6, 13 NO2, 14 IN2, 15 NO3, 16 NO6, 17 NO4, 18 NO5, 19 NC5, 20 ~{{EN}}, 21 NC4, 22 NC6, 23 NC3, 24 IN1

## TS3A27518ERTW
designator *  value TS3A27518ERTW  Reference: U
6-channel analog mux, WQFN-24; ki_keywords: SPI qSPI multiplexer demux; ki_fp_filters: WQFN*4x4mm*P0.5mm*; Footprint: Package_DFN_QFN:WQFN-24-1EP_4x4mm_P0.5mm_EP2.6x2.6mm; Datasheet: http://www.ti.com/lit/ds/symlink/ts3a27518e.pdf; Description_: 6-channel analog mux, WQFN-24
pins: 1 COM1, 2 GND, 3 COM2, 4 COM3, 5 VCC, 6 COM4, 7 COM5, 8 NO1, 9 COM6, 10 NO2, 11 IN2, 12 NO3, 13 NO6, 14 NO4, 15 NO5, 16 NC5, 17 ~{{EN}}, 18 NC4, 19 NC6, 20 NC3, 21 IN1, 22 NC2, 23 NC1, 24 N.C., 25 GND

## TS3DS10224RUK
designator *  value TS3DS10224RUK  Reference: U
High-Speed Differential Crosspoint, WQFN-20; ki_keywords: multiplexer demultiplexer 1:4 differential; ki_fp_filters: WQFN*1EP*3x3mm*P0.4mm*; Footprint: Package_DFN_QFN:WQFN-20-1EP_3x3mm_P0.4mm_EP1.7x1.7mm_ThermalVias; Datasheet: http://www.ti.com/lit/ds/symlink/ts3ds10224.pdf; Description_: High-Speed Differential Crosspoint, WQFN-20
pins: 1 INA+, 2 INA-, 3 INB+, 4 INB-, 5 GND, 6 OUTB1+, 7 OUTB1-, 8 OUTB0+, 9 OUTB0-, 10 ENB, 11 SBO, 12 SBI, 13 VCC, 14 SAI, 15 SAO, 16 ENA, 17 OUTA0-, 18 OUTA0+, 19 OUTA1-, 20 OUTA1+

## TS3L501ERUA
designator *  value TS3L501ERUA  Reference: U
8-Channel SPDT/16-Bit to 8-Bit Multiplexer and Demultiplexer, Ethernet LAN Switch With Power-Down Mode, WQFN-42; ki_keywords: gbit base-t lvds lvpecl video; ki_fp_filters: WQFN*1EP*3.5x9mm*P0.5mm*; Footprint: Package_DFN_QFN:WQFN-42-1EP_3.5x9mm_P0.5mm_EP2.05x7.55mm; Datasheet: http://www.ti.com/lit/ds/symlink/ts3l501e.pdf; Description_: 8-Channel SPDT/16-Bit to 8-Bit Multiplexer and Demultiplexer, Ethernet LAN Switch With Power-Down Mode, WQFN-42
part A pins: 2 A0, 3 A1, 35 C1, 36 C0, 37 B1, 38 B0
part B pins: 6 A2, 7 A3, 31 C3, 32 C2, 33 B3, 34 B2
part C pins: 9 A4, 10 A5, 26 C5, 27 C4, 28 B5, 29 B4
part D pins: 11 A6, 12 A7, 22 C7, 23 C6, 24 B7, 25 B6
part E pins: 15 LED_A0, 16 LED_A1, 17 LED_B0, 18 LED_B1, 19 LED_C0, 20 LED_C1, 40 LED_C2, 41 LED_B2, 42 LED_A2
part F pins: 1 VDD, 4 VDD, 5 PD, 8 VDD, 13 SEL, 14 VDD, 21 VDD, 30 VDD, 39 VDD, 43 GND

## TS5A3159ADBVR
designator *  value TS5A3159ADBVR  Reference: U
Single SPDT Analog Switch, 1.65-V to 5.5-V Single-Supply Operation, 1Ohm Ron, SOT-23-6; ki_fp_filters: SOT?23*; Footprint: Package_TO_SOT_SMD:SOT-23-6; Datasheet: http://www.ti.com/lit/ds/symlink/ts5a3159a.pdf; Description_: Single SPDT Analog Switch, 1.65-V to 5.5-V Single-Supply Operation, 1Ohm Ron, SOT-23-6; ki_keywords: Analog Switch
part A pins: 1, 3, 4, 6
part B pins: 2 GND, 5 V+

## TS5A3159ADCK
designator *  value TS5A3159ADCK  Reference: U
Single SPDT Analog Switch, 1.65-V to 5.5-V Single-Supply Operation, 1Ohm Ron, SC-70-6; ki_fp_filters: *SC?70*; Footprint: Package_TO_SOT_SMD:SOT-363_SC-70-6; Datasheet: http://www.ti.com/lit/ds/symlink/ts5a3159a.pdf; Description_: Single SPDT Analog Switch, 1.65-V to 5.5-V Single-Supply Operation, 1Ohm Ron, SC-70-6; ki_keywords: Analog Switch
part A pins: 1, 3, 4, 6
part B pins: 2 GND, 5 V+

## TS5A3159AYZPR
designator *  value TS5A3159AYZPR  Reference: U
Single SPDT Analog Switch, 1.65-V to 5.5-V Single-Supply Operation, 1Ohm Ron, DSBGA-6; ki_fp_filters: Texas*DSBGA*0.9x1.4mm*2x3*P0.5mm*; Footprint: Package_BGA:Texas_DSBGA-6_0.9x1.4mm_Layout2x3_P0.5mm; Datasheet: http://www.ti.com/lit/ds/symlink/ts5a3159a.pdf; Description_: Single SPDT Analog Switch, 1.65-V to 5.5-V Single-Supply Operation, 1Ohm Ron, DSBGA-6; ki_keywords: Analog Switch
part A pins: A1, A2, C1, C2
part B pins: B1 GND, B2 V+

## TS5A3159DBV
designator *  value TS5A3159DBV  Reference: U
Single SPDT Analog Switch, 1.65-V to 5.5-V Single-Supply Operation, 1Ohm Ron, SOT-23-6; ki_fp_filters: SOT?23*; Footprint: Package_TO_SOT_SMD:SOT-23-6; Datasheet: http://www.ti.com/lit/ds/symlink/ts5a3159.pdf; Description_: Single SPDT Analog Switch, 1.65-V to 5.5-V Single-Supply Operation, 1Ohm Ron, SOT-23-6; ki_keywords: Analog Switch
part A pins: 1, 3, 4, 6
part B pins: 2 GND, 5 V+

## TS5A3159DCK
designator *  value TS5A3159DCK  Reference: U
Single SPDT Analog Switch, 1.65-V to 5.5-V Single-Supply Operation, 1Ohm Ron, SC-70-6; ki_keywords: Analog Switch SPDT; ki_fp_filters: *SC?70*; Footprint: Package_TO_SOT_SMD:SOT-363_SC-70-6; Datasheet: http://www.ti.com/lit/ds/symlink/ts5a3159.pdf; Description_: Single SPDT Analog Switch, 1.65-V to 5.5-V Single-Supply Operation, 1Ohm Ron, SC-70-6
part A pins: 1, 3, 4, 6
part B pins: 2 GND, 5 V+

## TS5A3160DBV
designator *  value TS5A3160DBV  Reference: U
Single SPDT Analog Switch, 1.65-V to 5.5-V Single-Supply Operation, 1Ohm Ron, SOT-23-6; ki_fp_filters: SOT?23*; Footprint: Package_TO_SOT_SMD:SOT-23-6; Datasheet: http://www.ti.com/lit/ds/symlink/ts5a3160.pdf; Description_: Single SPDT Analog Switch, 1.65-V to 5.5-V Single-Supply Operation, 1Ohm Ron, SOT-23-6; ki_keywords: Analog Switch
part A pins: 1, 3, 4, 6
part B pins: 2 GND, 5 V+

## TS5A3160DCK
designator *  value TS5A3160DCK  Reference: U
Single SPDT Analog Switch, 1.65-V to 5.5-V Single-Supply Operation, 1Ohm Ron, SC-70-6; ki_fp_filters: *SC?70*; Footprint: Package_TO_SOT_SMD:SOT-363_SC-70-6; Datasheet: http://www.ti.com/lit/ds/symlink/ts5a3160.pdf; Description_: Single SPDT Analog Switch, 1.65-V to 5.5-V Single-Supply Operation, 1Ohm Ron, SC-70-6; ki_keywords: Analog Switch
part A pins: 1, 3, 4, 6
part B pins: 2 GND, 5 V+

## TS5A3166DBVR
designator *  value TS5A3166DBVR  Reference: U
Single SPST Analog Switch, 5-V/3.3-V, normally OFF, 0.9Ohm Ron, SOT-23-5; ki_keywords: Analog Switch SPST; ki_fp_filters: SOT?23*; Footprint: Package_TO_SOT_SMD:SOT-23-5; Datasheet: http://www.ti.com/lit/ds/symlink/ts5a3166.pdf; Description_: Single SPST Analog Switch, 5-V/3.3-V, normally OFF, 0.9Ohm Ron, SOT-23-5
pins: 1, 2, 3 GND, 4, 5 V+

## TS5A3166DCKR
designator *  value TS5A3166DCKR  Reference: U
Single SPST Analog Switch, 5-V/3.3-V, normally OFF, 0.9Ohm Ron, SC-70; ki_keywords: Analog Switch SPST; ki_fp_filters: *SC?70?5*; Footprint: Package_TO_SOT_SMD:SOT-353_SC-70-5; Datasheet: http://www.ti.com/lit/ds/symlink/ts5a3166.pdf; Description_: Single SPST Analog Switch, 5-V/3.3-V, normally OFF, 0.9Ohm Ron, SC-70
pins: 1, 2, 3 GND, 4, 5 V+

## TS5A23159DGS
designator *  value TS5A23159DGS  Reference: U
Dual SPDT 1ohm Bidirectional Analog Switch with Off protection, VSSOP-10; ki_keywords: switch analog SPDT; ki_fp_filters: VSSOP*3x3mm*P0.5mm*; Footprint: Package_SO:VSSOP-10_3x3mm_P0.5mm; Datasheet: http://www.ti.com/lit/ds/symlink/ts5a23159.pdf; Description_: Dual SPDT 1ohm Bidirectional Analog Switch with Off protection, VSSOP-10
part A pins: 1, 2, 9, 10
part B pins: 4, 5, 6, 7
part C pins: 3 GND, 8 VCC

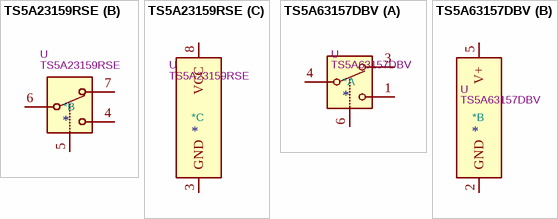
[diagram p10: symbols TS5A23159RSE to TS5A63157DBV]

## TS5A23159RSE
designator *  value TS5A23159RSE  Reference: U
Dual SPDT 1ohm Bidirectional Analog Switch with Off protection, UQFN-10; ki_keywords: switch analog SPDT; ki_fp_filters: Texas?R*PUQFN*; Footprint: Package_DFN_QFN:Texas_R-PUQFN-N10; Datasheet: http://www.ti.com/lit/ds/symlink/ts5a23159.pdf; Description_: Dual SPDT 1ohm Bidirectional Analog Switch with Off protection, UQFN-10
part A pins: 1, 2, 9, 10
part B pins: 4, 5, 6, 7
part C pins: 3 GND, 8 VCC

## TS5A63157DBV
designator *  value TS5A63157DBV  Reference: U
Single SPDT Analog Switch, 5V/3.3V Single-Supply Operation, 12Ohm Ron, SOT-23-6; ki_fp_filters: SOT?23*; Footprint: Package_TO_SOT_SMD:SOT-23-6; Datasheet: https://www.ti.com/lit/ds/symlink/ts5a63157.pdf; Description_: Single SPDT Analog Switch, 5V/3.3V Single-Supply Operation, 12Ohm Ron, SOT-23-6; ki_keywords: Analog Switch
part A pins: 1, 3, 4, 6
part B pins: 2 GND, 5 V+